# EAGLE library part CD4067BE (library IAD-Library)
CD4067BE Multiplexer Datasheet <http://www.ti.com/lit/ds/symlink/cd4067b.pdf>
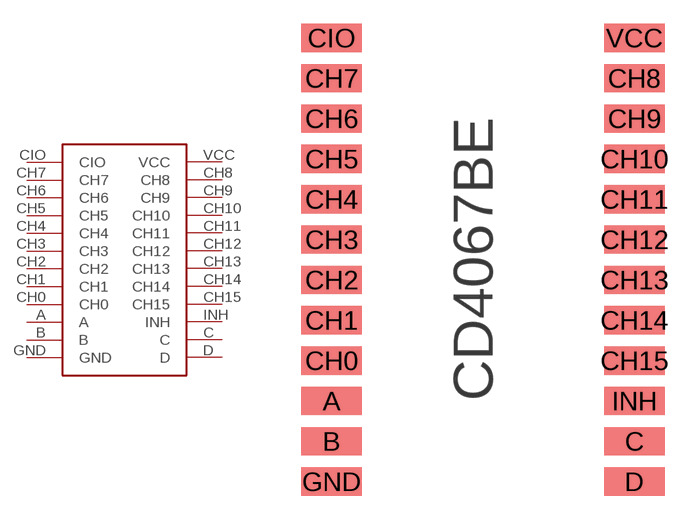
[diagram p0: symbol with the pads of CD4067BE-SMD; footprint CD4067BE-SMD]

Designator prefix -

## CD4067BEA  [CD4067BE-SMD]
A  A
B  B
C  C
CH0  CH0
CH1  CH1
CH2  CH2
CH3  CH3
CH4  CH4
CH5  CH5
CH6  CH6
CH7  CH7
CH8  CH8
CH9  CH9
CH10  CH10
CH11  CH11
CH12  CH12
CH13  CH13
CH14  CH14
CH15  CH15
CIO  CIO
D  D
GND  GND
INH  INH
VCC  VCC

## Footprint CD4067BE-SMD (pad centres in mm)
This package is best if the IC will be surface-mounted with angeled legs.
smd 3.81 x 1.778: A -8.89,-6.35; B -8.89,-8.89; C 10.16,-8.89; CH0 -8.89,-3.81; CH1 -8.89,-1.27; CH2 -8.89,1.27; CH3 -8.89,3.81; CH4 -8.89,6.35; CH5 -8.89,8.89; CH6 -8.89,11.43; CH7 -8.89,13.97; CH8 10.16,13.97; CH9 10.16,11.43; CH10 10.16,8.89; CH11 10.16,6.35; CH12 10.16,3.81; CH13 10.16,1.27; CH14 10.16,-1.27; CH15 10.16,-3.81; CIO -8.89,16.51; D 10.16,-11.43; GND -8.89,-11.43; INH 10.16,-6.35; VCC 10.16,16.51